# Altium footprint library Main.PcbLib: 120 footprints (part 6 of 8)
Each footprint in its own frame and in the unit in brackets; x right, y up, seen from the top. Pads: shape width x height; smd on the part's side, far side on the other; paste and mask are expansions set on the pad; w line width, h text height; cw(c..) or ccw(c..) is an arc to the next point about the centre after c.
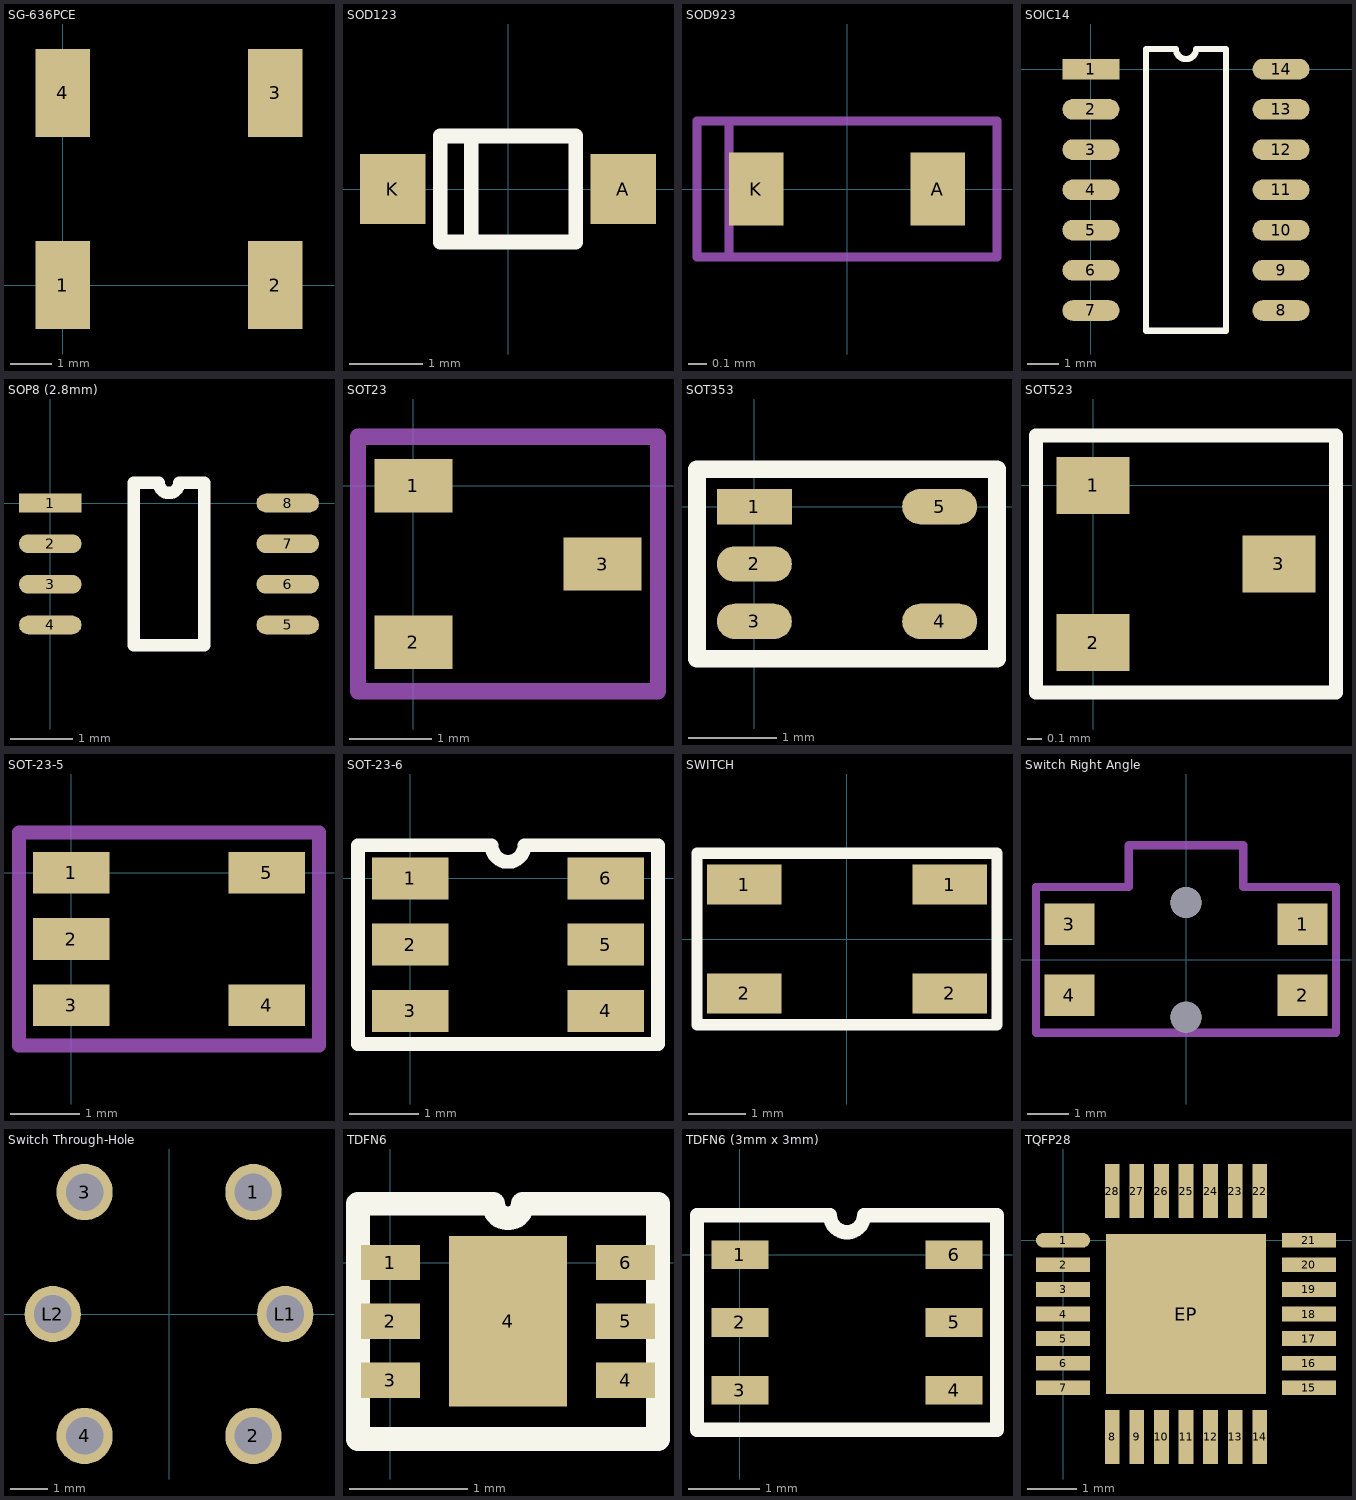
[diagram p5: the footprints below, top view; thin cyan lines are the x and y axes]

## SG-636PCE [mm]
pads (4):
  rect 1.3x2.1 smd: 1(0,0) 2(5.08,0) 3(5.08,4.6) 4(0,4.6)
3D body: height 2.7, standoff 0, extent -2.7,-0.2 7.8,4.8

## SOD123 [mm]
pads (2):
  rect 0.9x0.95 smd: A(1.575,0) K(-1.575,0)
Top Overlay:
  lines w0.2: -0.5,-0.725 -0.5,0.725 ; -0.925,-0.725 0.925,-0.725 0.925,0.725 -0.925,0.725 -0.925,-0.725
3D body: height 1, standoff 0.1, extent -1.35,-0.825 1.35,0.825

## SOD923 [mm]
pads (2):
  rect 0.3x0.4 smd: A(0.5,0) K(-0.5,0)
Mechanical 29:
  lines w0.05: -0.65,-0.375 -0.65,0.375 ; -0.825,-0.375 -0.825,0.375 0.825,0.375 0.825,-0.375 -0.825,-0.375
  text ".Designator" at -0.425,-0.175 h0.38
3D body: height 0.38, standoff 0, extent -0.425,-0.3 0.425,0.3

## SOIC14 [mm]
pads (14):
  rect 1.8x0.65 smd: 1(0,0)
  oval 1.8x0.65 smd: 2(0,-1.27) 3(0,-2.54) 4(0,-3.81) 5(0,-5.08) 6(0,-6.35) 7(0,-7.62) 8(6,-7.62) 9(6,-6.35) 10(6,-5.08) 11(6,-3.81) 12(6,-2.54) 13(6,-1.27) 14(6,0)
Top Overlay:
  lines w0.2: 1.735,-8.255 4.265,-8.255 4.265,0.635 3.317,0.635 cw(c3,0.635) 2.682,0.635 1.735,0.635 1.735,-8.255
3D body: height 1.75, standoff 0.25, extent 1.05,-8.15 4.95,0.55
3D body: height 0.25, standoff 0, extent 0,-0.225 1.05,0.225
3D body: height 0.25, standoff 0, extent 0,-1.5 1.05,-1.05
3D body: height 0.25, standoff 0, extent 0,-4.05 1.05,-3.6
3D body: height 0.25, standoff 0, extent 0,-2.775 1.05,-2.325
3D body: height 0.25, standoff 0, extent 0,-7.85 1.05,-7.4
3D body: height 0.25, standoff 0, extent 0,-6.575 1.05,-6.125
3D body: height 0.25, standoff 0, extent 0,-5.3 1.05,-4.85
3D body: height 0.25, standoff 0, extent 4.95,-2.775 6,-2.325
3D body: height 0.25, standoff 0, extent 4.95,-1.5 6,-1.05
3D body: height 0.25, standoff 0, extent 4.95,-0.225 6,0.225
3D body: height 0.25, standoff 0, extent 4.95,-5.3 6,-4.85
3D body: height 0.25, standoff 0, extent 4.95,-4.025 6,-3.575
3D body: height 0.25, standoff 0, extent 4.95,-6.575 6,-6.125
3D body: height 0.25, standoff 0, extent 4.95,-7.85 6,-7.4

## SOP8 (2.8mm) [mm]
pads (8):
  rect 1x0.3 smd: 1(0,0)
  oval 1x0.3 smd: 2(0,-0.65) 3(0,-1.3) 4(0,-1.95) 5(3.8,-1.95) 6(3.8,-1.3) 7(3.8,-0.65) 8(3.8,0)
Top Overlay:
  lines w0.2: 1.335,-2.275 2.465,-2.275 2.465,0.325 2.062,0.325 cw(c1.9,0.325) 1.737,0.325 1.335,0.325 1.335,-2.275
3D body: height 0.15, standoff 0, extent 3.3,-0.1 3.9,0.1
3D body: height 0.15, standoff 0, extent 3.3,-0.75 3.9,-0.55
3D body: height 0.15, standoff 0, extent 3.3,-1.4 3.9,-1.2
3D body: height 0.15, standoff 0, extent 3.3,-2.05 3.9,-1.85
3D body: height 0.15, standoff 0, extent -0.1,-2.05 0.5,-1.85
3D body: height 0.15, standoff 0, extent -0.1,-1.4 0.5,-1.2
3D body: height 0.15, standoff 0, extent -0.1,-0.75 0.5,-0.55
3D body: height 0.15, standoff 0, extent -0.1,-0.1 0.5,0.1
3D body: height 1.1, standoff 0, extent 0.5,-2.425 3.3,0.475

## SOT23 [mm]
pads (3):
  rect 0.95x0.65 smd: 1(0,0) 2(0,-1.9) 3(2.3,-0.95)
Mechanical 29:
  lines w0.2: -0.675,-2.5 -0.675,0.6 2.975,0.6 2.975,-2.5 -0.675,-2.5
  text ".Designator" at 0.05,-1.325 h0.76
3D body: height 1.3, standoff 0, extent 0.5,-2.4 1.8,0.5
3D body: height 0.17, standoff 0, extent -0.05,-0.2 0.5,0.2
3D body: height 0.17, standoff 0, extent -0.05,-2.1 0.5,-1.7
3D body: height 0.17, standoff 0, extent 1.8,-1.15 2.35,-0.75

## SOT353 [mm]
pads (5):
  rect 0.85x0.4 smd: 1(0,0)
  oval 0.85x0.4 smd: 2(0,-0.65) 3(0,-1.3) 4(2.1,-1.3) 5(2.1,0)
Top Overlay:
  lines w0.2: -0.65,-1.725 -0.65,0.425 2.75,0.425 2.75,-1.725 -0.65,-1.725
3D body: height 0.95, standoff 0, extent 0.425,-1.65 1.675,0.35
3D body: height 0.17, standoff 0, extent 0,-0.125 0.425,0.125
3D body: height 0.17, standoff 0, extent 0,-0.775 0.425,-0.525
3D body: height 0.17, standoff 0, extent 0,-1.425 0.425,-1.175
3D body: height 0.17, standoff 0, extent 1.675,-1.425 2.1,-1.175
3D body: height 0.17, standoff 0, extent 1.675,-0.125 2.1,0.125

## SOT523 [mm]
pads (3):
  rect 0.51x0.4 smd: 1(0,0) 2(0,-1.1) 3(1.3,-0.55)
Top Overlay:
  lines w0.1: -0.4,-1.45 1.7,-1.45 1.7,0.35 -0.4,0.35 -0.4,-1.45
3D body: height 0.2, standoff 0, extent -0.225,-0.15 0.225,0.15
3D body: height 0.9, standoff 0, extent 0.225,-1.4 1.075,0.3
3D body: height 0.2, standoff 0, extent -0.225,-1.25 0.225,-0.95
3D body: height 0.2, standoff 0, extent 1.075,-0.7 1.525,-0.4

## SOT-23-5 [mm]
pads (5):
  rect 1.1x0.6 smd: 1(0,0) 2(0,-0.95) 3(0,-1.9) 4(2.8,-1.9) 5(2.8,0)
Mechanical 29:
  lines w0.2: -0.75,-2.475 -0.75,0.575 3.55,0.575 3.55,-2.475 -0.75,-2.475
  text ".Designator" at 0.25,-1.325 h0.76
3D body: height 0.17, standoff 0, extent 2.25,-0.2 2.8,0.2
3D body: height 0.17, standoff 0, extent 2.25,-2.1 2.8,-1.7
3D body: height 0.17, standoff 0, extent 0,-2.1 0.55,-1.7
3D body: height 0.17, standoff 0, extent 0,-1.15 0.55,-0.75
3D body: height 1.4, standoff 0, extent 0.55,-2.475 2.25,0.575
3D body: height 0.17, standoff 0, extent 0,-0.2 0.55,0.2

## SOT-23-6 [mm]
pads (6):
  rect 1.1x0.6 smd: 1(0,0) 2(0,-0.95) 3(0,-1.9) 4(2.8,-1.9) 5(2.8,-0.95) 6(2.8,0)
Top Overlay:
  lines w0.2: -0.75,-2.375 -0.75,0.475 1.162,0.475 ccw(c1.4,0.475) 1.637,0.475 3.55,0.475 3.55,-2.375 -0.75,-2.375
3D body: height 0.17, standoff 0, extent 0,-0.2 0.55,0.2
3D body: height 1.4, standoff 0, extent 0.55,-2.475 2.25,0.575
3D body: height 0.17, standoff 0, extent 0,-1.15 0.55,-0.75
3D body: height 0.17, standoff 0, extent 0,-2.1 0.55,-1.7
3D body: height 0.17, standoff 0, extent 2.25,-2.1 2.8,-1.7
3D body: height 0.17, standoff 0, extent 2.25,-1.15 2.8,-0.75
3D body: height 0.17, standoff 0, extent 2.25,-0.2 2.8,0.2

## SWITCH [mm]
pads (4):
  rect 1.3x0.7 smd: 1(-1.8,0.95) 1(1.8,0.95) 2(-1.8,-0.95) 2(1.8,-0.95)
Top Overlay:
  lines w0.2: -2.625,-1.5 2.625,-1.5 2.625,1.5 -2.625,1.5 -2.625,-1.5
3D body: height 0.65, standoff 0, extent -1.5,-1.3 1.5,1.3

## Switch Right Angle [mm]
pads (6):
  rect 1.2x1 smd: 1(2.8,0.85) 2(2.8,-0.85) 3(-2.8,0.85) 4(-2.8,-0.85)
  oval 0.75x0.7 hole 0.75 unplated: ""(0,-1.375)
  round 0.75 hole 0.75 unplated: ""(0,1.375)
Mechanical 29:
  lines w0.2: -3.6,-1.75 3.6,-1.75 3.6,1.75 1.375,1.75 1.375,2.75 -1.375,2.75 -1.375,1.75 -3.6,1.75 -3.6,-1.75
  text ".Designator" at -1.15,-0.325 h0.76
3D body: height 1.65, standoff -0.5, extent -3.2,-1.75 3.2,2.75

## Switch Through-Hole [mm]
pads (6):
  round 1.5 hole 1: 1(2.25,3.25) 2(2.25,-3.25) 3(-2.25,3.25) 4(-2.25,-3.25) L1(3.1,0) L2(-3.1,0)
3D body: height 11.95, standoff 8.1, extent -2.48,-2.495 2.5,2.495
3D body: height 8.3, standoff 6, extent -3.968,-3.992 4,3.992
3D body: height 4.8, standoff 0, extent -3.2,-3.2 3.2,3.2

## TDFN6 [mm]
pads (7):
  rect 0.5x0.3 smd: 1(0,0) 2(0,-0.5) 3(0,-1) 4(2,-1) 5(2,-0.5) 6(2,0)
  rect 1x1.45 smd: 4(1,-0.5)
Top Overlay:
  lines w0.2: -0.275,0.475 -0.275,-1.5 2.275,-1.5 2.275,0.475 ; -0.275,0.5 0.875,0.5 ccw(c1,0.5) 1.125,0.5 2.275,0.5
3D body: height 0.55, standoff 0, extent 0,-1.5 2,0.5

## TDFN6 (3mm x 3mm) [mm]
pads (6):
  rect 0.8x0.4 smd: 1(0,0) 2(0,-0.95) 3(0,-1.9) 4(3,-1.9) 5(3,-0.95) 6(3,0)
Top Overlay:
  lines w0.2: -0.6,-2.45 3.6,-2.45 3.6,0.55 1.737,0.55 cw(c1.5,0.55) 1.262,0.55 -0.6,0.55 -0.6,-2.45
3D body: height 0.8, standoff 0, extent 0,-2.45 3,0.55

## TQFP28 [mm]
pads (29):
  oval 1.1x0.3 smd: 1(0,0)
  rect 1.1x0.3 smd: 2(0,-0.5) 3(0,-1) 4(0,-1.5) 5(0,-2) 6(0,-2.5) 7(0,-3) 15(5,-3) 16(5,-2.5) 17(5,-2) 18(5,-1.5) 19(5,-1) 20(5,-0.5) 21(5,0)
  rect 0.3x1.1 smd: 8(1,-4) 9(1.5,-4) 10(2,-4) 11(2.5,-4) 12(3,-4) 13(3.5,-4) 14(4,-4) 22(4,1) 23(3.5,1) 24(3,1) 25(2.5,1) 26(2,1) 27(1.5,1) 28(1,1)
  rect 3.25x3.25 smd: EP(2.5,-1.5)
Top Overlay:
  lines w0.2: 1.085,-2.915 1.085,-1.17 2.17,-0.085 3.915,-0.085 3.915,-2.915 1.085,-2.915
3D body: height 0.75, standoff 0, extent 0,-4 5,1